# Altium footprint library 10kPOT.PcbLib: 1 footprints
Each footprint in its own frame and in the unit in brackets; x right, y up, seen from the top. Pads: shape width x height; smd on the part's side, far side on the other; paste and mask are expansions set on the pad; w line width, h text height; cw(c..) or ccw(c..) is an arc to the next point about the centre after c.
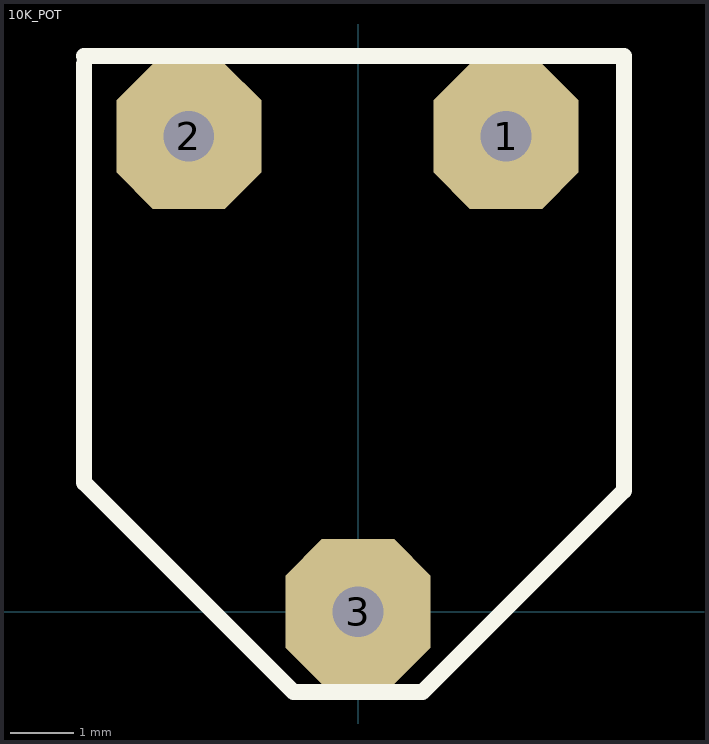
[diagram p0: the footprint, top view; thin cyan lines are the x and y axes]

## 10K_POT [mil]
pads (3):
  oct 90x90 hole 31.5: 1(91.85,295) 2(-105,295) 3(0,0)
Top Overlay:
  lines w10: -170,340 -170,80 -40,-50 40,-50 165,75 165,345 -170,345